# Altium footprint library AUVic_PCB_Library_Capacitors.PcbLib: 24 footprints (part 1 of 2)
Each footprint in its own frame and in the unit in brackets; x right, y up, seen from the top. Pads: shape width x height; smd on the part's side, far side on the other; paste and mask are expansions set on the pad; w line width, h text height; cw(c..) or ccw(c..) is an arc to the next point about the centre after c.
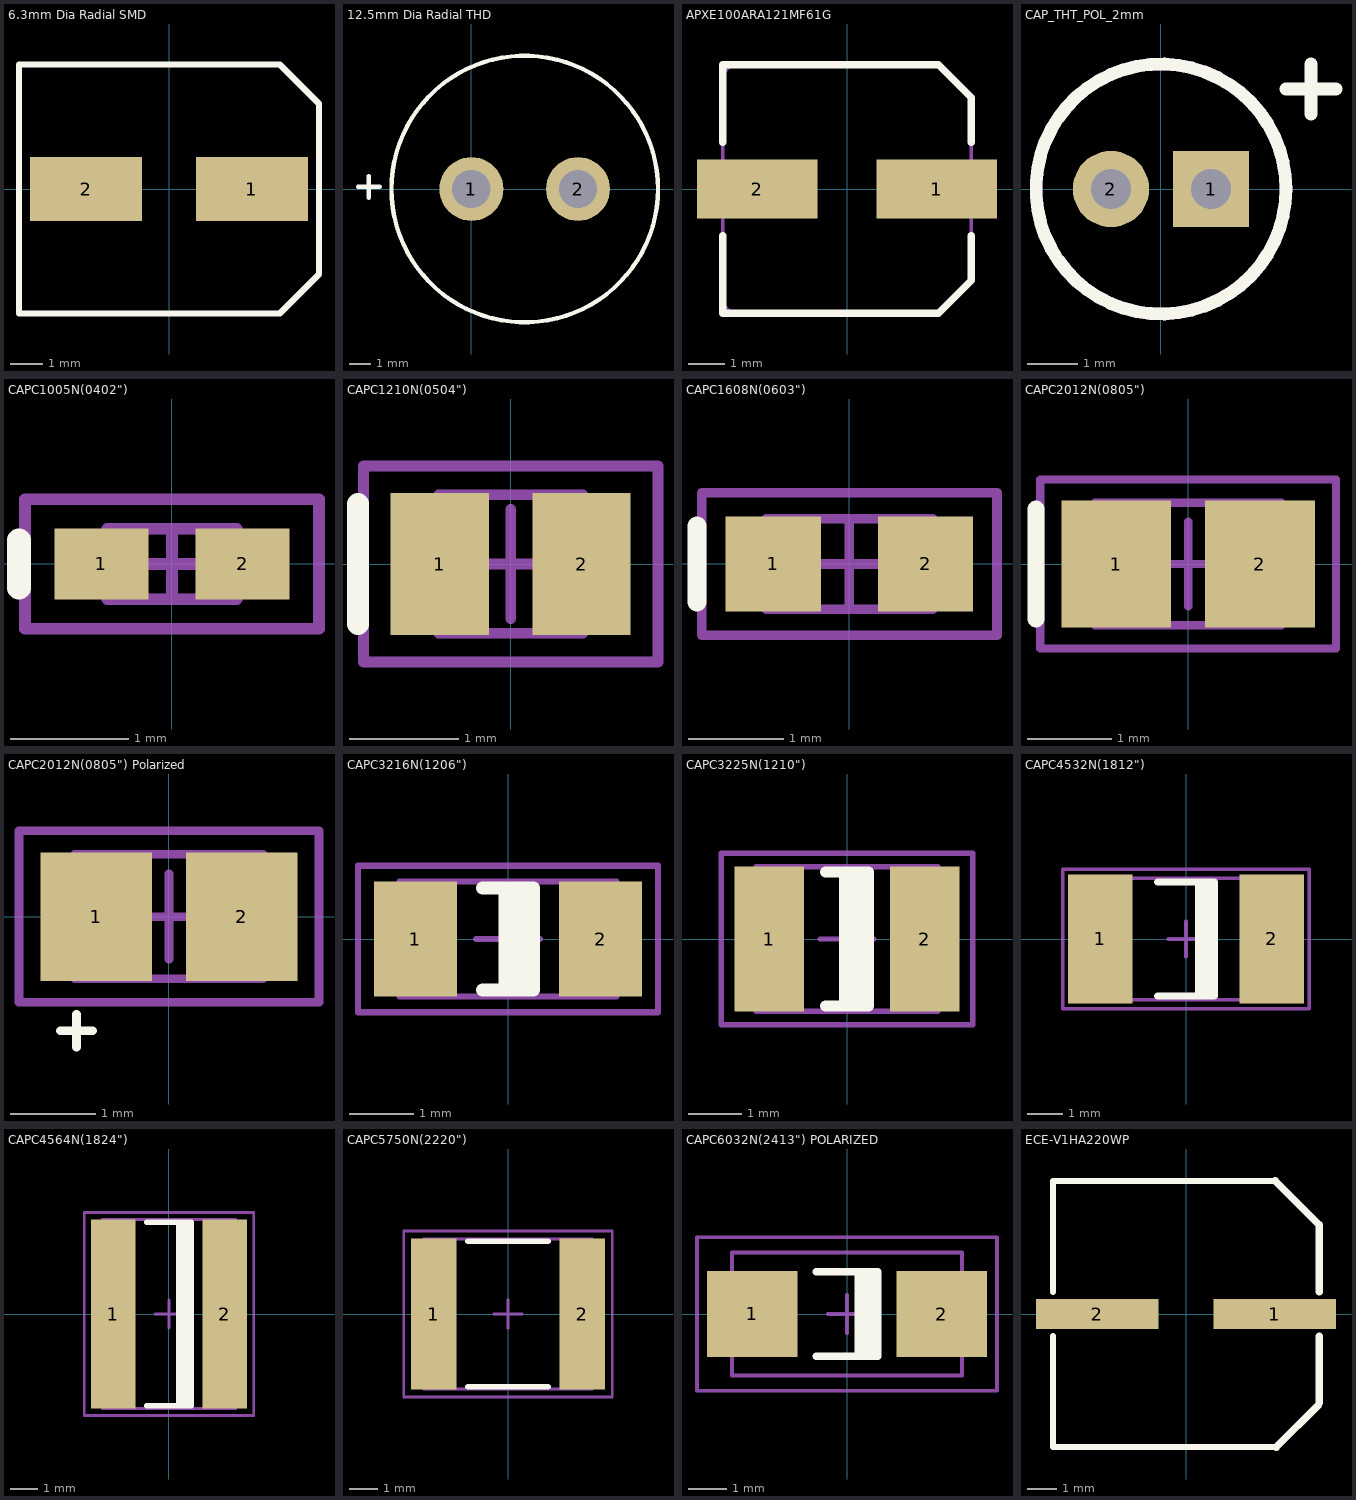
[diagram p0: the footprints below, top view; thin cyan lines are the x and y axes]

## 6.3mm Dia Radial SMD [mm]
pads (2):
  rect 3.5x2 smd: 1(2.6,0) 2(-2.6,0)
Top Overlay:
  lines w0.2: -4.7,-3.9 3.467,-3.9 4.7,-2.667 4.7,2.667 3.467,3.9 -4.7,3.9 -4.7,0 -4.7,-3.9
3D body "CAP_EEFK_D8.step": height 8.05, standoff 0, extent -3.899,-3.404 3.899,3.404

## 12.5mm Dia Radial THD [mm]
pads (2):
  round 3 hole 1.8: 1(0,0) 2(5,0)
Top Overlay:
  circle w0.2: c2.5,0 r6.25
  lines w0.2: -5.318,0.1 -4.302,0.1 ; -4.81,-0.408 -4.81,0.608
3D body: height 1.27, standoff 0, extent -3,-4.7 -3,-4.7
3D body "12,5x22mm_5mm pitch.STEP": height 22.02, standoff -3, extent -3.75,-6.25 8.76,6.25

## APXE100ARA121MF61G [mm] "Capacitor, SMD, Digi#565-3200-1-ND, United Chemi-Con"
height 5.8
pads (2):
  rect 3.3x1.6 smd: 1(2.45,0) 2(-2.45,0)
Top Overlay:
  lines w0.2: -3.4,-1.27 -3.4,-3.4 2.5,-3.4 3.4,-2.5 3.4,-1.27 ; -3.4,1.27 -3.4,3.4 2.5,3.4 3.4,2.5 3.4,1.27
Body Top:
  lines w0.1: -3.4,-3 ccw(c-3,-3) -3,-3.4 2.5,-3.4 3.4,-2.5 3.4,2.5 2.5,3.4 -3,3.4 ccw(c-3,3) -3.4,3 -3.4,-3
3D body: height 6.1, standoff 0.05, extent -3.373,-3.393 3.4,3.393
3D body: height 0.5, standoff 0, extent -3.401,-3.401 3.401,3.401

## CAP_THT_POL_2mm [mm] "THT Cap, Polarized, 2mm lead spacing"
pads (2):
  rect 1.524x1.524 hole 0.8: 1(1,0)
  round 1.524 hole 0.8: 2(-1,0)
Top Overlay:
  circle w0.254: c0,0 r2.5
  lines w0.254: 2.5,2 3.5,2 ; 3,1.5 3,2.5
Body Top:
  circle w0.254: c0,0 r2.5
  text ".Designator" at -6,-1 h1.02

## CAPC1005N(0402") [mm] "Chip Capacitor, Body 1.0x0.5mm (0402\"), IPC Medium Density"
height 0.6
pads (2):
  rect 0.8x0.6 smd: 1(-0.6,0) 2(0.6,0)
Top Overlay:
  lines w0.2: -1.3,-0.2 -1.3,0.2
Body Top:
  lines w0.1: -0.55,-0.3 0.55,-0.3 0.55,0.3 -0.55,0.3 -0.55,-0.3
Courtyard Top:
  lines w0.1: -0.3,0 0.3,0 ; 0,-0.3 0,0.3 ; -1.25,-0.55 1.25,-0.55 1.25,0.55 -1.25,0.55 -1.25,-0.55
3D body: height 0.6, standoff 0, extent -0.55,-0.3 0.55,0.3

## CAPC1210N(0504") [mm] "Chip Capacitor, Body 1.2x1.0mm (0504\"), IPC Medium Density"
height 1.02
pads (2):
  rect 0.9x1.3 smd: 1(-0.65,0) 2(0.65,0)
Top Overlay:
  lines w0.2: -1.4,-0.55 -1.4,0.55
Body Top:
  lines w0.1: -0.66,-0.635 0.66,-0.635 0.66,0.635 -0.66,0.635 -0.66,-0.635
Courtyard Top:
  lines w0.1: -0.5,0 0.5,0 ; 0,-0.5 0,0.5 ; -1.35,-0.9 1.35,-0.9 1.35,0.9 -1.35,0.9 -1.35,-0.9
3D body: height 1.02, standoff 0, extent -0.66,-0.635 0.66,0.635

## CAPC1608N(0603") [mm] "Chip Capacitor, Body 1.6x0.8mm (0603\"), IPC Medium Density"
height 0.85
pads (2):
  rect 1x1 smd: 1(-0.8,0) 2(0.8,0)
Top Overlay:
  lines w0.2: -1.6,-0.4 -1.6,0.4
Body Top:
  lines w0.1: -0.875,-0.475 0.875,-0.475 0.875,0.475 -0.875,0.475 -0.875,-0.475
  text ".Designator" at -2.7,-0.5 h0.51
Courtyard Top:
  lines w0.1: -0.475,0 0.475,0 ; 0,-0.475 0,0.475 ; -1.55,-0.75 1.55,-0.75 1.55,0.75 -1.55,0.75 -1.55,-0.75
3D body "User Library-CAPC1608X09.step": height 0.9, standoff 0, extent -0.8,-0.4 0.8,0.4

## CAPC2012N(0805") [mm] "Chip Capacitor, Body 2.0x1.3mm (0805\"), IPC Medium Density"
height 1.1
pads (2):
  rect 1.3x1.5 smd: 1(-0.85,0) 2(0.85,0)
Top Overlay:
  lines w0.2: -1.8,-0.65 -1.8,0.65
Body Top:
  lines w0.1: -1.1,-0.725 -1.1,0.725 1.1,0.725 1.1,-0.725 -1.1,-0.725
  text ".Designator" at -2.7,-0.5 h0.51
Courtyard Top:
  lines w0.1: -0.5,0 0.5,0 ; 0,-0.5 0,0.5 ; -1.75,-1 -1.75,1 1.75,1 1.75,-1 -1.75,-1
3D body "User Library-CAPC2013X10.step": height 1, standoff 0, extent -1,-0.625 1,0.625

## CAPC2012N(0805") Polarized [mm] "Chip Capacitor, Polarized, Body 2.0x1.3mm (0805\"), IPC Medium Density"
height 1.1
pads (2):
  rect 1.3x1.5 smd: 1(-0.85,0) 2(0.85,0)
Top Overlay:
  lines w0.1: -1.27,-1.333 -0.889,-1.333 ; -1.079,-1.524 -1.079,-1.143
Body Top:
  lines w0.1: -1.1,-0.725 -1.1,0.725 1.1,0.725 1.1,-0.725 -1.1,-0.725
  text ".Designator" at -2.7,-0.5 h0.51
Courtyard Top:
  lines w0.1: -0.5,0 0.5,0 ; 0,-0.5 0,0.5 ; -1.75,-1 -1.75,1 1.75,1 1.75,-1 -1.75,-1
3D body: height 1.1, standoff 0, extent -1.1,-0.725 1.1,0.725

## CAPC3216N(1206") [mm] "Chip Capacitor, Body 3.2x1.6mm (1206\"), IPC Medium Density"
height 1.35
pads (2):
  rect 1.3x1.8 smd: 1(-1.45,0) 2(1.45,0)
Top Overlay:
  region: 0.4,0.8 -0.15,0.8 -0.15,-0.8 0.4,-0.8
  lines w0.2: -0.4,-0.8 0.4,-0.8 0.4,0.8 -0.4,0.8
Body Top:
  lines w0.1: -1.7,-0.9 1.7,-0.9 1.7,0.9 -1.7,0.9 -1.7,-0.9
  text ".Designator" at -5.2,-1 h1.02
Courtyard Top:
  lines w0.1: -0.5,0 0.5,0 ; 0,-0.5 0,0.5 ; -2.35,-1.15 2.35,-1.15 2.35,1.15 -2.35,1.15 -2.35,-1.15
3D body "User Library-CAPC3216X10.STEP": height 1, standoff 0, extent -1.6,-0.8 1.6,0.8

## CAPC3225N(1210") [mm] "Chip Capacitor, Body 3.2x2.5mm (1210\"), IPC Medium Density"
height 1.35
pads (2):
  rect 1.3x2.7 smd: 1(-1.45,0) 2(1.45,0)
Top Overlay:
  region: 0.4,1.25 -0.15,1.25 -0.15,-1.25 0.4,-1.25
  lines w0.2: -0.4,-1.25 0.4,-1.25 0.4,1.25 -0.4,1.25
Body Top:
  lines w0.1: -1.7,-1.35 1.7,-1.35 1.7,1.35 -1.7,1.35 -1.7,-1.35
  text ".Designator" at -5.162,-0.759 h1.02
Courtyard Top:
  lines w0.1: -0.5,0 0.5,0 ; 0,-0.5 0,0.5 ; -2.35,-1.6 2.35,-1.6 2.35,1.6 -2.35,1.6 -2.35,-1.6
3D body "User Library-CAPC3225X10.STEP": height 1, standoff 0, extent -1.6,-1.25 1.6,1.25

## CAPC4532N(1812") [mm] "Chip Capacitor, Body 4.5x3.2mm (1812\"), IPC Medium Density"
height 1.35
pads (2):
  rect 1.8x3.6 smd: 1(-2.4,0) 2(2.4,0)
Top Overlay:
  region: 0.8,1.6 0.25,1.6 0.25,-1.6 0.8,-1.6
  lines w0.2: -0.8,-1.6 0.8,-1.6 0.8,1.6 -0.8,1.6
Body Top:
  lines w0.1: -2.4,-1.7 -2.4,1.7 2.4,1.7 2.4,-1.7 -2.4,-1.7
  text ".Designator" at -5.2,-0.859 h1.02
Courtyard Top:
  lines w0.1: -0.5,0 0.5,0 ; 0,-0.5 0,0.5 ; -3.45,-1.95 -3.45,1.95 3.45,1.95 3.45,-1.95 -3.45,-1.95
3D body: height 1.35, standoff 0, extent -2.4,-1.7 2.4,1.7

## CAPC4564N(1824") [mm] "Chip Capacitor, Body 4.5x6.4mm (1824\"), IPC Medium Density"
height 1.1
pads (2):
  rect 1.6x6.8 smd: 1(-2,0) 2(2,0)
Top Overlay:
  region: 0.8,3.3 0.25,3.3 0.25,-3.3 0.8,-3.3
  lines w0.2: -0.8,-3.3 0.8,-3.3 0.8,3.3 -0.8,3.3
Body Top:
  lines w0.1: -2.4,-3.4 2.4,-3.4 2.4,3.4 -2.4,3.4 -2.4,-3.4
  text ".Designator" at -5.2,-0.8 h1.02
Courtyard Top:
  lines w0.1: -0.5,0 0.5,0 ; 0,-0.5 0,0.5 ; -3.05,-3.65 3.05,-3.65 3.05,3.65 -3.05,3.65 -3.05,-3.65
3D body: height 1.1, standoff 0, extent -2.4,-3.4 2.4,3.4

## CAPC5750N(2220") [mm] "Chip Capacitor, Body 5.7x5.0mm (2220\"), IPC Medium Density"
height 1.35
pads (2):
  rect 1.6x5.3 smd: 1(-2.6,0) 2(2.6,0)
Top Overlay:
  lines w0.2: -1.4,-2.55 1.4,-2.55 ; -1.4,2.55 1.4,2.55
Body Top:
  lines w0.1: -2.95,-2.625 -2.95,2.625 2.95,2.625 2.95,-2.625 -2.95,-2.625
  text ".Designator" at -5.2,-0.659 h1.02
Courtyard Top:
  lines w0.1: -0.5,0 0.5,0 ; 0,-0.5 0,0.5 ; -3.65,-2.9 -3.65,2.9 3.65,2.9 3.65,-2.9 -3.65,-2.9
3D body "User Library-CAPC5750X26.step": height 2.6, standoff 0, extent -2.85,-2.5 2.85,2.5

## CAPC6032N(2413") POLARIZED [mm] "Chip Capacitor, Body 6.0x3.2mm (2413\"), IPC Medium Density"
height 2.5
pads (2):
  rect 2.37x2.23 smd: 1(-2.47,0) 2(2.47,0)
Top Overlay:
  region: 0.8,1.1 0.2,1.1 0.2,-1.1 0.8,-1.1
  lines w0.2: -0.8,-1.1 0.8,-1.1 0.8,1.1 -0.8,1.1
Body Top:
  lines w0.1: -3,-1.6 3,-1.6 3,1.6 -3,1.6 -3,-1.6
  text ".Designator" at -5.2,-0.8 h1.02
Courtyard Top:
  lines w0.1: -0.5,0 0.5,0 ; 0,-0.5 0,0.5 ; -3.91,-2 -3.91,2 3.91,2 3.91,-2 -3.91,-2
3D body: height 1.35, standoff 1.35, extent -2.5,-1.6 -1.7,1.6
3D body: height 1.35, standoff 0, extent -3,-1.6 3,1.6

## ECE-V1HA220WP [mm]
pads (2):
  rect 4.15x1 smd: 1(3,0) 2(-3,0)
Top Overlay:
  lines w0.2: -4.5,-0.75 -4.5,-4.5 3,-4.5 ; -4.5,0.75 -4.5,4.5 3,4.5
  lines w0.254: 3.02,4.5 4.5,3.02 4.5,3 4.5,0.75 ; 3.06,-4.5 4.47,-3.09 ; 4.5,-3 4.5,-0.75